# Altium footprint library Osram.PcbLib: 3 footprints
Each footprint in its own frame and in the unit in brackets; x right, y up, seen from the top. Pads: shape width x height; smd on the part's side, far side on the other; paste and mask are expansions set on the pad; w line width, h text height; cw(c..) or ccw(c..) is an arc to the next point about the centre after c.
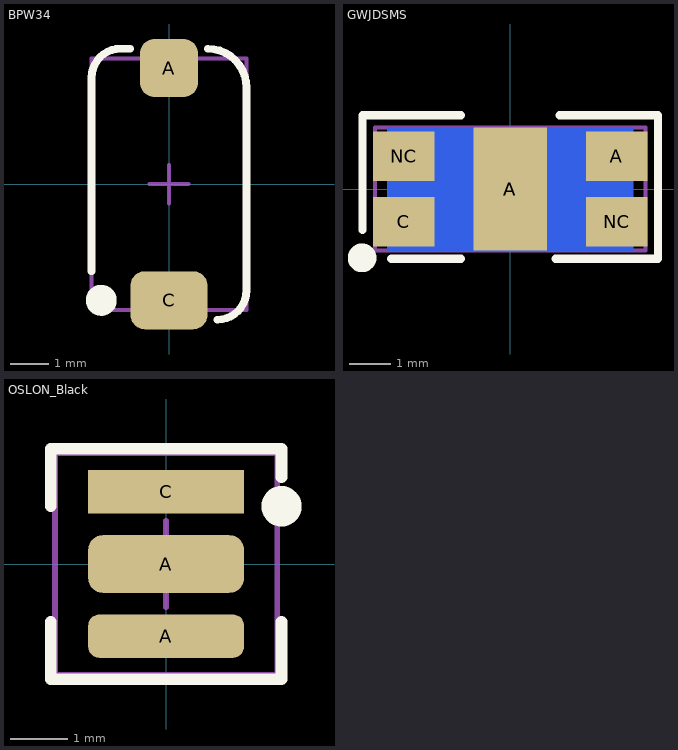
[diagram p0: the footprints below, top view; thin cyan lines are the x and y axes]

## BPW34 [mm] "Si Photo Diode, SMT"
pads (2):
  rrect50% 1.5x1.5 smd: A(0,3)
  rrect50% 2x1.5 smd: C(0,-3)
Top Overlay:
  circle w0.4: c-1.75,-3 r0.2
  lines w0.2: -2,-2.25 -2,2.75 cw(c-1.25,2.75) -1.25,3.5 -1,3.5 ; 1,3.5 cw(c1,2.5) 2,2.5 2,-2.75 cw(c1.25,-2.75) 1.25,-3.5
Mechanical 13:
  lines w0.1: -2,-3.25 2,-3.25 2,3.25 -2,3.25 -2,-3.25
Mechanical 15:
  lines w0.1: -0.5,0 0.5,0 ; 0,-0.5 0,0.5
3D body "BPW_34_FS_20180209_geometry.STEP": height 1.2, standoff 0, extent -1.95,-3.25 1.95,3.25

## GWJDSMS [mm] "LED, Duris E5, 5 Pins, SMD"
pads (6):
  rect 1.8x3 smd: A(0,0)
  rect 6x3 smd far side: A(0,0)
  rect 1.5x1.2 smd: A(2.6,0.8) C(-2.6,-0.8) NC(-2.6,0.8) NC(2.6,-0.8)
Top Overlay:
  circle w0.5: c-3.613,-1.678 r0.1
  lines w0.2: -3.6,-1 -3.6,1.8 -1.2,1.8 ; -2.9,-1.7 -1.2,-1.7 ; 1.1,-1.7 3.6,-1.7 3.6,1.8 1.2,1.8
Mechanical 15:
  lines w0.1: -3.3,-1.5 -3.3,1.5 3.3,1.5 3.3,-1.5 -3.3,-1.5
3D body "duris_e5.step": height 0.87, standoff 0, extent -2.85,-1.5 2.85,1.6

## OSLON_Black [mm] "Oslon Black LED Case"
height 2.41
pads (3):
  rrect50% 2.7x0.75 smd: A(0,-1.25)
  rrect50% 2.7x1 smd: A(0,0)
  rect 2.7x0.75 smd: C(0,1.25)
Top Overlay:
  circle w0.5: c2,1 r0.1
  lines w0.2: -2,-1 -2,-2 2,-2 2,-1 ; -2,1 -2,2 2,2 2,1.5
Mechanical 13:
  lines w0.1: -1.925,-1.925 -1.925,1.925 1.925,1.925 1.925,-1.925 -1.925,-1.925
Mechanical 15:
  lines w0.1: -0.75,0 0.75,0 ; 0,-0.75 0,0.75
3D body "SFH_4725S_20180123_geometry.STEP": height 2.4, standoff 0, extent -1.925,-1.925 1.925,1.925